# EAGLE library part MAX6070AAUT* (library bschulz_Old)
MAX6070 Low Noise high precision voltage referance
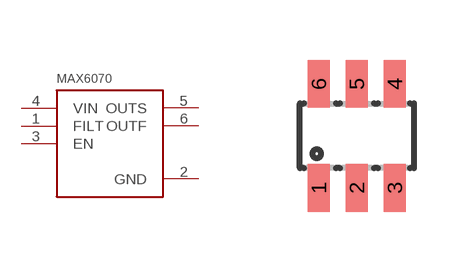
[diagram p11: symbol with the pads of SOT23-6L; footprint SOT23-6L]

Designator prefix -

## MAX6070AAUT12 (DIGIKEY: MAX6070BAUT12+TCT-ND; MF: Maxim; MPN: MAX6070BAUT12+T), MAX6070AAUT18 (DIGIKEY: MAX6070BAUT18+TCT-ND; MF: Maxim; MPN: MAX6070BAUT18+T), MAX6070AAUT21 (DIGIKEY: MAX6070BAUT21+TCT-ND; MF: Maxim; MPN: MAX6070BAUT21+T), MAX6070AAUT25 (DIGIKEY: MAX6070BAUT25+TCT-ND; MF: Maxim; MPN: MAX6070BAUT25+T), MAX6070AAUT30 (DIGIKEY: MAX6070BAUT30+TCT-ND; MF: Maxim; MPN: MAX6070BAUT30+T), MAX6070AAUT33 (DIGIKEY: MAX6070BAUT33+TCT-ND; MF: Maxim; MPN: MAX6070BAUT33+T), MAX6070AAUT41 (DIGIKEY: MAX6070BAUT41+TCT-ND; MF: Maxim; MPN: MAX6070BAUT41+T), MAX6070AAUT50 (DIGIKEY: MAX6070BAUT50+TCT-ND; MF: Maxim; MPN: MAX6070BAUT50+T)  [SOT23-6L]
1  FILT
2  GND
3  EN
4  VIN
5  OUTS
6  OUTF

## Footprint SOT23-6L (pad centres in mm)
Small Outline Transistor
smd 0.55 x 1.2: 1 -0.95,-1.3; 2 0,-1.3; 3 0.95,-1.3; 4 0.95,1.3; 5 0,1.3; 6 -0.95,1.3